# Altium integrated library opto-vishay.IntLib: 6 symbols
Pins are listed as number, name and electrical type; pins without a type are passive.

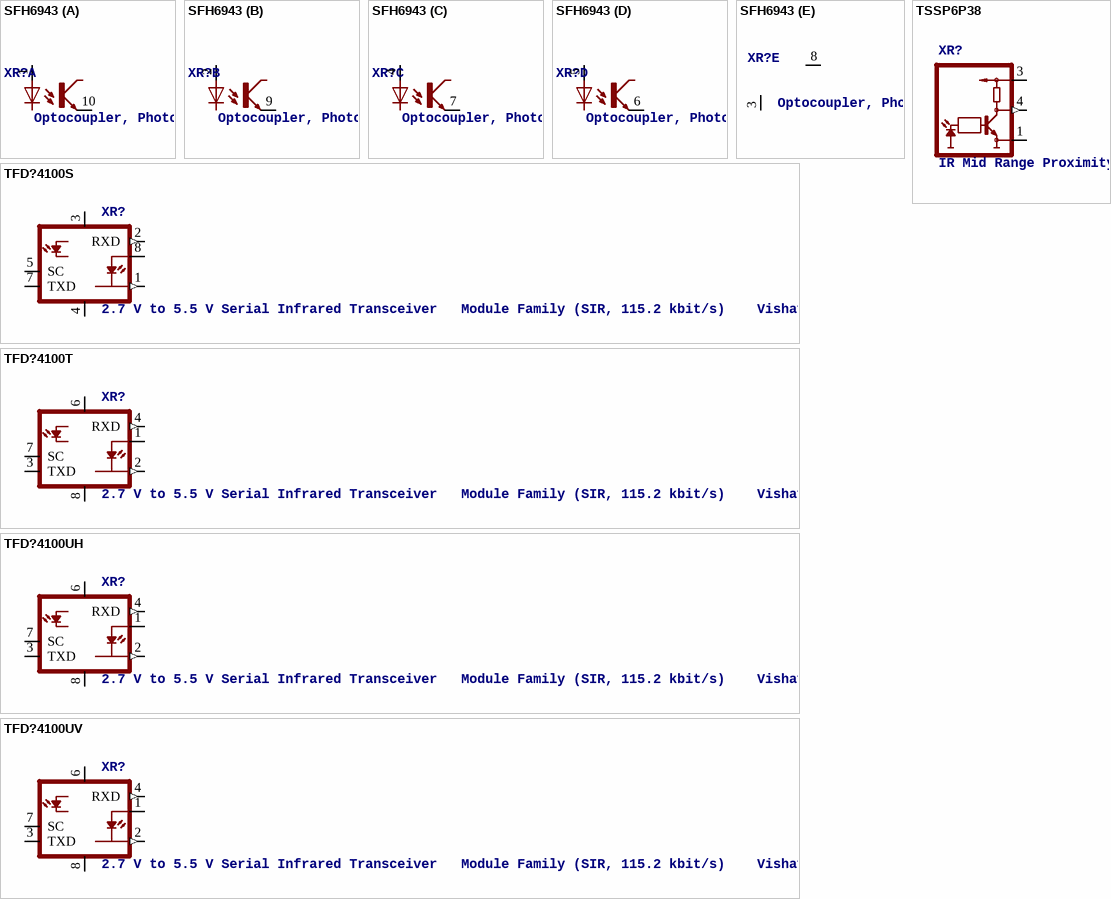
[diagram p0: symbols SFH6943 to TSSP6P38]

## SFH6943
designator XR?, comment Optocoupler, Phototransistor Output  Quad Channel   Source: http://www.vishay.com/docs/83688/83688.pdf
MPN: SFH6943A-4T; OC_FARNELL: 1045530; OC_NEWARK: 66M1324
footprint SOT223/10
part A pins: 1 A, 10 EMI
part B pins: 2 A, 9 EMI
part C pins: 4 A, 7 EMI
part D pins: 5 A, 6 EMI
part E pins: 3 COM-CAT, 8 COM-COL

## TFD?4100S
designator XR?, comment 2.7 V to 5.5 V Serial Infrared Transceiver   Module Family (SIR, 115.2 kbit/s)    Vishay Telefunken
OC_FARNELL: unknown; OC_NEWARK: unknown
footprint TFDS4
pins: 1 IRED-C (out), 2 RXD (out), 3 VCC (power), 4 GND (power), 5 SC, 7 TXD, 8 IRED-A

## TFD?4100T
designator XR?, comment 2.7 V to 5.5 V Serial Infrared Transceiver   Module Family (SIR, 115.2 kbit/s)    Vishay Telefunken
OC_FARNELL: unknown; OC_NEWARK: unknown
footprint TFDT4
pins: 1 IRED-A, 2 IRED-C (out), 3 TXD, 4 RXD (out), 6 VCC (power), 7 SC, 8 GND (power)

## TFD?4100UH
designator XR?, comment 2.7 V to 5.5 V Serial Infrared Transceiver   Module Family (SIR, 115.2 kbit/s)    Vishay Telefunken
MPN: TFDU4101-TT3; OC_FARNELL: 1652525; OC_NEWARK: 27M9702
footprint TFDU4-HOR
pins: 1 IRED-A, 2 IRED-C (out), 3 TXD, 4 RXD (out), 6 VCC (power), 7 SC, 8 GND (power)

## TFD?4100UV
designator XR?, comment 2.7 V to 5.5 V Serial Infrared Transceiver   Module Family (SIR, 115.2 kbit/s)    Vishay Telefunken
OC_FARNELL: unknown; OC_NEWARK: unknown
footprint TFDU4-VER
pins: 1 IRED-A, 2 IRED-C (out), 3 TXD, 4 RXD (out), 6 VCC (power), 7 SC, 8 GND (power)

## TSSP6P38
designator XR?, comment IR Mid Range Proximity Sensor   Used source: IR Sensor transmitter and receiver diode.pdf   Source to corrupt   Data sheet
footprint TSSP6P38
pins: 1 GND (power), 3 VS (power), 4 OUT (out)